# Altium footprint library Tool.PcbLib: 86 footprints (part 3 of 6)
Each footprint in its own frame and in the unit in brackets; x right, y up, seen from the top. Pads: shape width x height; smd on the part's side, far side on the other; paste and mask are expansions set on the pad; w line width, h text height; cw(c..) or ccw(c..) is an arc to the next point about the centre after c.
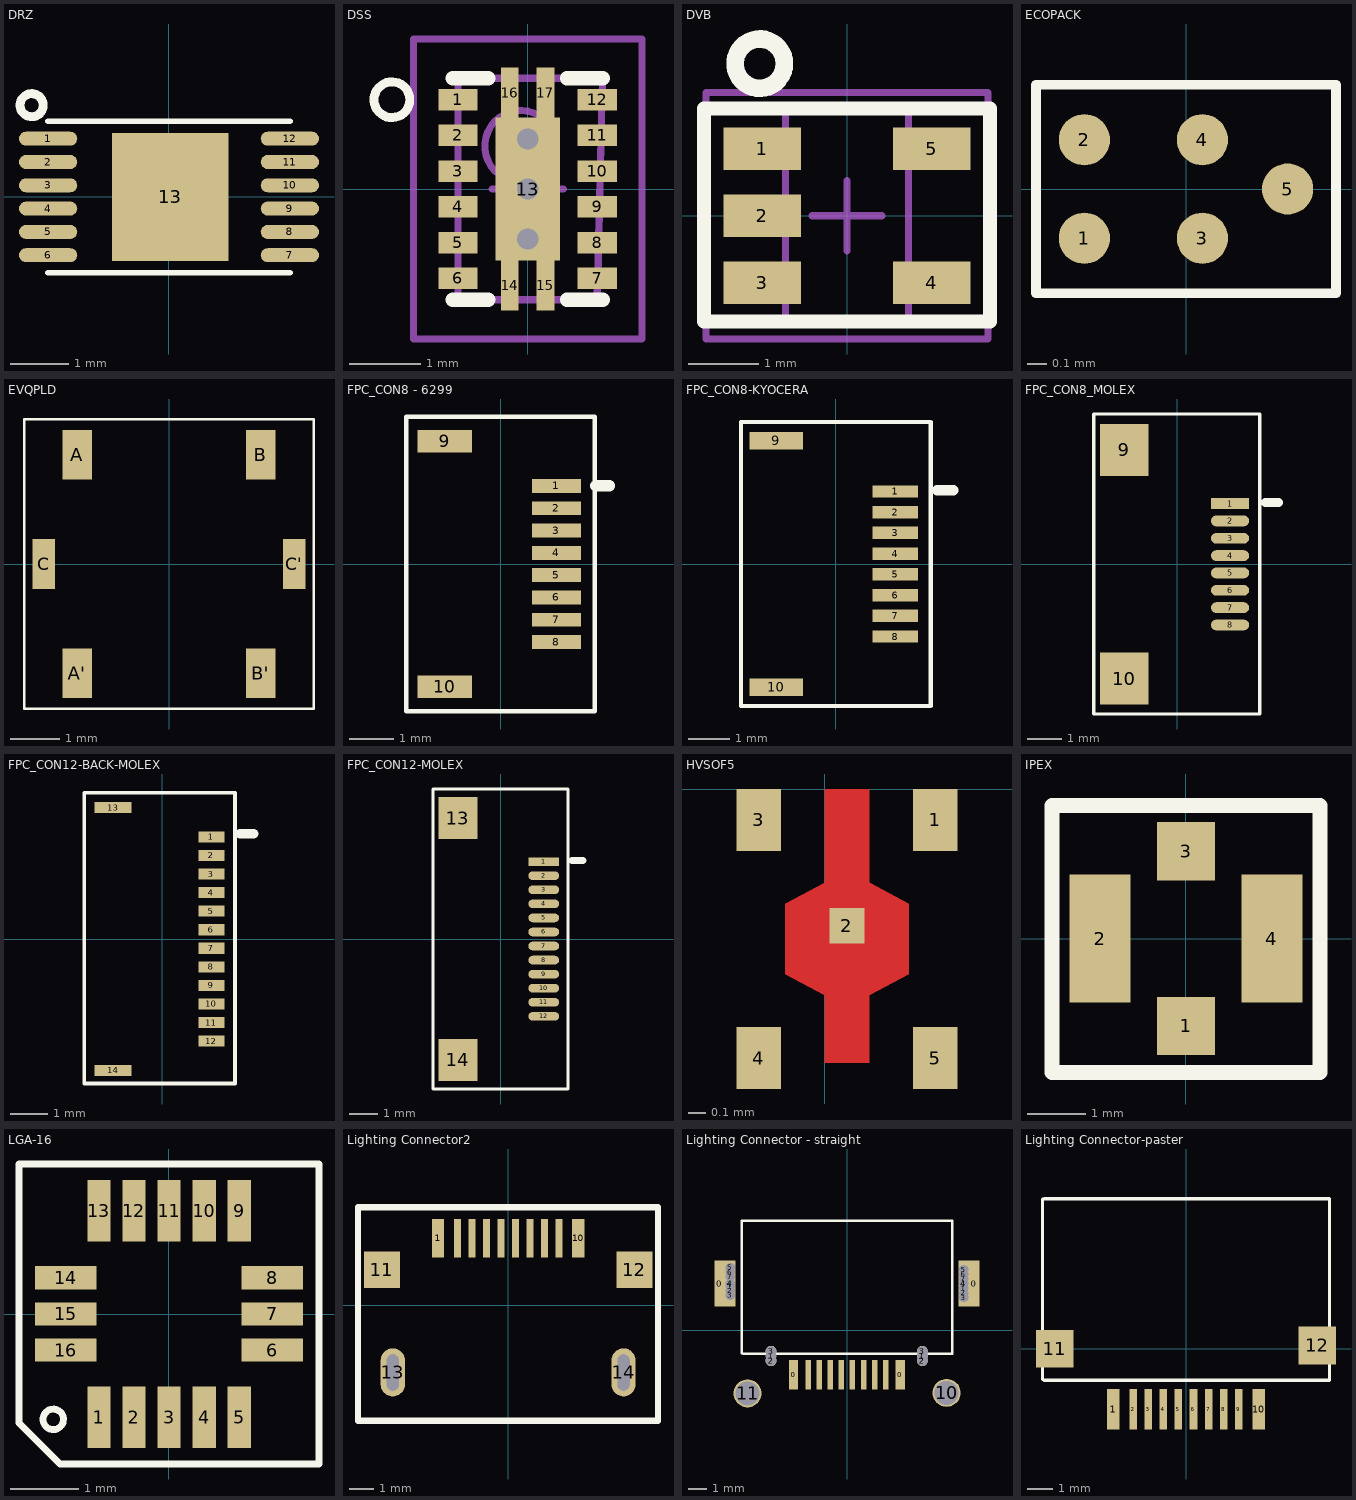
[diagram p2: the footprints below, top view; thin cyan lines are the x and y axes]

## DRZ [mm]
pads (13):
  oval 1x0.24 smd: 1(-2.075,1) 2(-2.075,0.6) 3(-2.075,0.2) 4(-2.075,-0.2) 5(-2.075,-0.6) 6(-2.075,-1) 7(2.075,-1) 8(2.075,-0.6) 9(2.075,-0.2) 10(2.075,0.2) 11(2.075,0.6) 12(2.075,1)
  rect 2x2.2 smd: 13(0.025,0)
Top Overlay:
  circle w0.152: c-2.357,1.575 r0.198
  lines w0.1: -2.075,-1.3 2.075,-1.3 ; -2.075,1.3 2.075,1.3
3D body: height 1, standoff 0, extent -2.677,-1.242 2.677,1.242

## DSS [mm] "QFN, 12-Leads, Body 3.1x2.1mm (max), Pitch 0.50mm, IPC Medium Density"
height 0.8
pads (17):
  rect 0.55x0.3 smd: 1(-0.975,1.25) 2(-0.975,0.75) 3(-0.975,0.25) 4(-0.975,-0.25) 5(-0.975,-0.75) 6(-0.975,-1.25) 7(0.975,-1.25) 8(0.975,-0.75) 9(0.975,-0.25) 10(0.975,0.25) 11(0.975,0.75) 12(0.975,1.25)
  rect 0.9x2 smd: 13(0,0)
  rect 0.25x0.7 smd: 14(-0.25,-1.35) 15(0.25,-1.35) 16(-0.25,1.35) 17(0.25,1.35)
via 0,0 diameter 0.5 hole 0.3
via 0,-0.7 diameter 0.5 hole 0.3
via 0,0.7 diameter 0.5 hole 0.3
Top Overlay:
  circle w0.125: c-1.9,1.25 r0.25
  lines w0.2: -1.05,-1.55 -0.55,-1.55 ; -1.05,1.55 -0.55,1.55 ; 0.55,-1.55 1.05,-1.55 ; 0.55,1.55 1.05,1.55
Mechanical 13:
  circle w0.1: c-0.1,0.6 r0.5
  lines w0.1: 0.975,1.55 -0.975,1.55 -0.975,-1.55 0.975,-1.55 1.05,1.55
Mechanical 15:
  lines w0.1: -0.5,0 0.5,0 ; 0,-0.5 0,0.5 ; -1.6,-2.1 1.6,-2.1 1.6,2.1 -1.6,2.1 -1.6,-2.1
3D body: height 0.8, standoff 0, extent -1.05,-1.55 1.05,1.55

## DVB [mm] "厂家：TI，型号：LMV321IDBVR"
pads (5):
  rect 1.1x0.6 smd: 1(-1.2,0.95) 2(-1.2,0) 3(-1.2,-0.95) 4(1.2,-0.95) 5(1.2,0.95)
Top Overlay:
  circle w0.25: c-1.239,2.159 r0.35
  lines w0.2: -2.032,-1.5 2.032,-1.5 2.032,1.524 -2.032,1.524 -2.032,-1.5
Mechanical 13:
  lines w0.1: -0.875,-1.5 -0.875,1.5 0.875,1.5 0.875,-1.5 -0.875,-1.5
Mechanical 15:
  lines w0.1: -0.5,0 0.5,0 ; 0,-0.5 0,0.5 ; -2,-1.75 -2,1.75 2,1.75 2,-1.75 -2,-1.75
3D body: height 1.45, standoff 0.15, extent -0.875,-1.5 0.875,1.5

## ECOPACK [mm]
height 0.69
pads (5):
  round 0.26 smd: 1(-0.516,-0.25) 2(-0.516,0.25) 3(0.083,-0.25) 4(0.083,0.25) 5(0.517,0)
Top Overlay:
  lines w0.05: -0.763,-0.53 0.763,-0.53 0.763,0.53 -0.763,0.53 -0.763,-0.53
3D body: height 0.69, standoff 0, extent -0.748,-0.482 0.748,0.482

## EVQPLD [mm]
pads (6):
  rect 0.6x1 smd: A(-1.85,2.2) A'(-1.85,-2.2) B(1.85,2.2) B'(1.85,-2.2)
  rect 0.45x1 smd: C(-2.525,0) C'(2.525,0)
Top Overlay:
  lines w0.05: -2.921,-2.921 -2.921,2.921 2.921,2.921 2.921,-2.921 -2.921,-2.921

## FPC_CON8 - 6299 [mm]
pads (10):
  rect 1.1x0.31 smd: 1(1.25,1.75) 2(1.25,1.25) 3(1.25,0.75) 4(1.25,0.25) 5(1.25,-0.25) 6(1.25,-0.75) 7(1.25,-1.25) 8(1.25,-1.75)
  rect 1.22x0.5 smd: 9(-1.25,2.75) 10(-1.25,-2.75)
Top Overlay:
  lines w0.1: -2.11,-3.3 2.11,-3.3 2.11,3.3 -2.11,3.3 -2.11,-3.3
  lines w0.254: 2.134,1.753 2.438,1.753
3D body: height 1.03, standoff 0, extent -1.962,-3.102 1.902,3.102

## FPC_CON8-KYOCERA [mm] "厂家：京瓷，型号：04 6298 708 100 883+"
pads (10):
  rect 1.1x0.3 smd: 1(1.435,1.75) 2(1.435,1.25) 3(1.435,0.75) 4(1.435,0.25) 5(1.435,-0.25) 6(1.435,-0.75) 7(1.435,-1.25) 8(1.435,-1.75)
  rect 1.3x0.42 smd: 9(-1.435,2.97) 10(-1.435,-2.97)
Top Overlay:
  lines w0.1: -2.286,-3.429 -2.286,3.429 2.295,3.429 2.295,-3.429 -2.286,-3.429
  lines w0.254: 2.45,1.778 2.831,1.778
3D body: height 1, standoff 0, extent -2.187,-3.282 2.087,3.282

## FPC_CON8_MOLEX [mm]
pads (10):
  rect 1.1x0.31 smd: 1(1.525,1.75)
  oval 1.1x0.31 smd: 2(1.525,1.25) 3(1.525,0.75) 4(1.525,0.25) 5(1.525,-0.25) 6(1.525,-0.75) 7(1.525,-1.25) 8(1.525,-1.75)
  rect 1.4x1.5 smd: 9(-1.525,3.3) 10(-1.525,-3.3)
Top Overlay:
  lines w0.1: -2.413,-4.318 2.385,-4.318 2.385,4.334 -2.413,4.334 -2.413,-4.318
  lines w0.254: 2.54,1.778 2.921,1.778

## FPC_CON12-BACK-MOLEX [mm]
pads (14):
  rect 0.7x0.3 smd: 1(1.325,2.75) 2(1.325,2.25) 3(1.325,1.75) 4(1.325,1.25) 5(1.325,0.75) 6(1.325,0.25) 7(1.325,-0.25) 8(1.325,-0.75) 9(1.325,-1.25) 10(1.325,-1.75) 11(1.325,-2.25) 12(1.325,-2.75)
  rect 1x0.3 smd: 13(-1.325,3.54) 14(-1.325,-3.54)
Top Overlay:
  lines w0.1: -2.104,-3.893 1.96,-3.893 1.96,3.937 -2.104,3.937 -2.104,-3.893
  lines w0.254: 2.087,2.838 2.468,2.838
3D body: height 1, standoff 0, extent -1.927,-3.792 1.777,3.792

## FPC_CON12-MOLEX [mm]
pads (14):
  rect 1.1x0.31 smd: 1(1.525,2.75)
  oval 1.1x0.31 smd: 2(1.525,2.25) 3(1.525,1.75) 4(1.525,1.25) 5(1.525,0.75) 6(1.525,0.25) 7(1.525,-0.25) 8(1.525,-0.75) 9(1.525,-1.25) 10(1.525,-1.75) 11(1.525,-2.25) 12(1.525,-2.75)
  rect 1.4x1.5 smd: 13(-1.525,4.3) 14(-1.525,-4.3)
Top Overlay:
  lines w0.1: -2.413,-5.334 2.385,-5.334 2.385,5.334 -2.413,5.334 -2.413,-5.334
  lines w0.254: 2.54,2.794 2.921,2.794

## HVSOF5 [mm]
pads (5):
  rect 0.25x0.35 smd: 1(0.625,-0.175) 3(-0.375,-0.175) 4(-0.375,-1.525) 5(0.625,-1.525)
  rect 0.2x0.2 smd: 2(0.125,-0.775)
Top Layer:
  region: -0.225,-1.05 0,-1.17 0,-1.55 0.25,-1.55 0.25,-1.17 0.475,-1.05 0.475,-0.65 0.254,-0.53 0.25,-0.53 0.25,0 0,0 0,-0.53 -0.225,-0.65
Top Paste:
  region: -0.225,-1.05 0,-1.17 0,-1.55 0.25,-1.55 0.25,-1.17 0.475,-1.05 0.475,-0.65 0.254,-0.53 0.25,-0.53 0.25,0 0,0 0,-0.53 -0.225,-0.65
Top Solder:
  region: -0.225,-1.05 0,-1.17 0,-1.55 0.25,-1.55 0.25,-1.17 0.475,-1.05 0.475,-0.65 0.254,-0.53 0.25,-0.53 0.25,0 0,0 0,-0.53 -0.225,-0.65

## IPEX [mm]
pads (4):
  rect 1x1 smd: 1(0,-1.5) 3(0,1.5)
  rect 1.05x2.2 smd: 2(-1.475,0) 4(1.475,0)
Top Overlay:
  lines w0.254: -2.3,2.286 -2.3,-2.3 2.3,-2.3 2.3,2.286 -2.286,2.286

## LGA-16 [mm]
pads (16):
  rect 0.34x0.9 smd: 1(-1.029,-1.514) 2(-0.514,-1.514) 3(0.001,-1.514) 4(0.516,-1.514) 5(1.031,-1.514) 9(1.031,1.514) 10(0.516,1.514) 11(0.001,1.514) 12(-0.514,1.514) 13(-1.029,1.514)
  rect 0.9x0.34 smd: 6(1.514,-0.529) 7(1.514,0.001) 8(1.514,0.531) 14(-1.514,0.531) 15(-1.514,0.001) 16(-1.514,-0.529)
Top Overlay:
  lines w0.1: -1.549,-1.524 ccw(c-1.698,-1.545) -1.548,-1.545 ; -2.2,-1.6 -1.6,-2.2 2.2,-2.2 2.2,2.2 -2.2,2.2 -2.2,-1.6
3D body: height 1, standoff 0, extent -2.065,-2.065 2.065,2.065

## Lighting Connector2 [mm]
pads (14):
  rect 0.5x1.6 smd: 1(-2.9,2.775) 10(2.9,2.775)
  rect 0.3x1.6 smd: 2(-2.1,2.775) 3(-1.5,2.775) 4(-0.9,2.775) 5(-0.3,2.775) 6(0.3,2.775) 7(0.9,2.775) 8(1.5,2.775) 9(2.1,2.775)
  rect 1.5x1.5 smd: 11(-5.225,1.475) 12(5.225,1.475)
  oval 1x2 hole 0.5 slot 1.5 at 90 deg: 13(-4.775,-2.775) 14(4.775,-2.775)
Top Overlay:
  lines w0.254: -6.214,-4.775 -6.214,4.064 ; -6.2,-4.775 6.2,-4.775 6.2,4.064 -6.2,4.064
3D body: height 0, standoff 0, extent -5.377,-3.877 5.377,-1.673
3D body: height 3.1, standoff 0, extent -6.077,-3.877 6.077,3.677

## Lighting Connector - straight [mm]
pads (34):
  rect 0.6x2.5 hole 0.1: 0(-6.906,2.545) 0(6.906,2.545)
  rect 0.5x1.6 smd: 0(-2.902,-2.417) 0(2.898,-2.417)
  rect 0.3x1.6 smd: 0(-2.102,-2.417) 0(-1.502,-2.417) 0(-0.902,-2.417) 0(-0.302,-2.417) 0(0.298,-2.417) 0(0.898,-2.417) 0(1.498,-2.417) 0(2.098,-2.417)
  round 0.5 hole 0.5: 1(-6.352,2.409) 1(6.352,2.291) 2(-6.352,2.155) 2(6.352,2.037) 3(-6.352,1.901) 3(6.352,1.783) 5(-6.352,3.425) 5(6.352,3.307) 6(-6.352,3.171) 6(6.352,3.053) 7(-6.352,2.917) 7(6.352,2.799)
  oval 0.5x0.6 hole 0.6 unplated: 1(-4.129,-1.393)
  round 0.6 hole 0.6 unplated: 1(4.099,-1.393) 2(-4.129,-1.647) 2(4.099,-1.647) 3(-4.129,-1.139) 3(4.099,-1.139)
  rect 0.6x2.5 hole 0.5: 4(-6.352,2.545) 4(6.352,2.545)
  round 1.524 hole 1.3: 10(5.416,-3.394) 11(-5.409,-3.424)
Top Overlay:
  lines w0.127: -5.721,-1.237 -5.721,5.959 ; -5.654,5.969 5.715,5.969 ; -5.648,-1.266 5.721,-1.266 ; 5.721,-1.237 5.721,5.959

## Lighting Connector-paster [mm]
pads (12):
  rect 0.5x1.6 smd: 1(-2.902,-2.417) 10(2.898,-2.417)
  rect 0.3x1.6 smd: 2(-2.102,-2.417) 3(-1.502,-2.417) 4(-0.902,-2.417) 5(-0.302,-2.417) 6(0.298,-2.417) 7(0.898,-2.417) 8(1.498,-2.417) 9(2.098,-2.417)
  rect 1.5x1.5 smd: 11(-5.225,-0.004) 12(5.225,0.123)
Top Overlay:
  lines w0.127: -5.721,-1.237 -5.721,5.959 ; -5.654,5.969 5.715,5.969 ; -5.648,-1.266 5.721,-1.266 ; 5.721,-1.237 5.721,5.959